# Altium footprint library DS3231.PcbLib: 1 footprints
Each footprint in its own frame and in the unit in brackets; x right, y up, seen from the top. Pads: shape width x height; smd on the part's side, far side on the other; paste and mask are expansions set on the pad; w line width, h text height; cw(c..) or ccw(c..) is an arc to the next point about the centre after c.
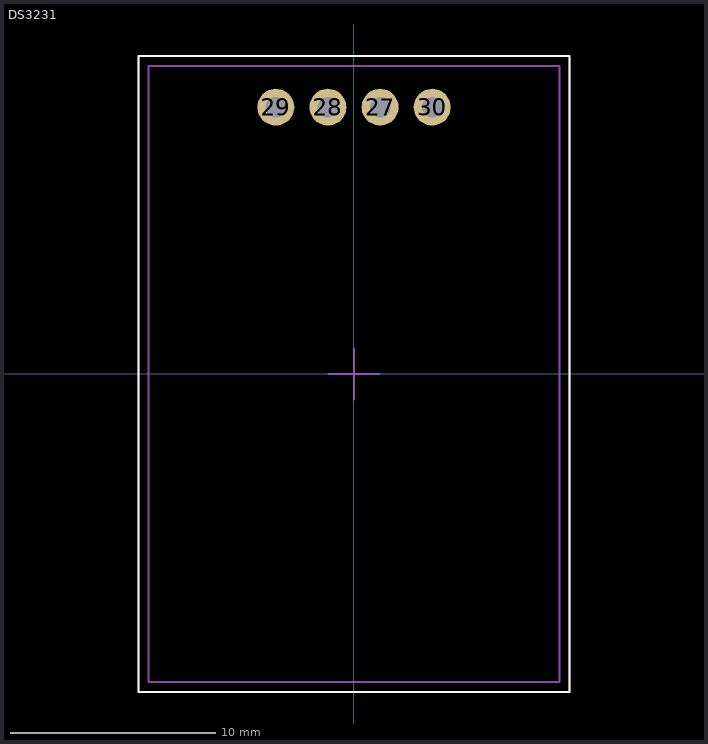
[diagram p0: the footprint, top view; thin cyan lines are the x and y axes]

## DS3231 [mm]
pads (4):
  round 1.8 hole 1: 27(1.27,13) 28(-1.27,13) 29(-3.81,13) 30(3.81,13)
Top Overlay:
  lines w0.1: -10.5,-15.5 -10.5,15.5 10.5,15.5 10.5,-15.5 -10.5,-15.5
Top Assy:
  lines w0.1: -10,-15 -10,15 10,15 10,-15 -10,-15
Border:
  lines w0.1: -1.25,0 1.25,0 ; 0,-1.25 0,1.25 ; -10.5,-15.5 -10.5,15.5 10.5,15.5 10.5,-15.5 -10.5,-15.5
3D body "DS3231.step": height 5, standoff 0, extent -10,-15 10,15